# EAGLE library part MCP3428-QUAD-ADC (library jason_eagle6)
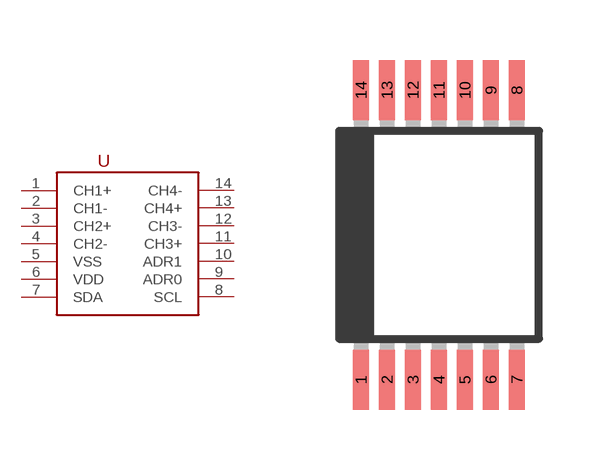
[diagram p65: symbol with the pads of SSOP14; footprint SSOP14]

Designator prefix -

## MCP3428-QUAD-ADC  [SSOP14]
1  CH1+
2  CH1-
3  CH2+
4  CH2-
5  VSS  pwr
6  VDD  pwr
7  SDA
8  SCL
9  ADR0
10  ADR1
11  CH3+
12  CH3-
13  CH4+
14  CH4-

## Footprint SSOP14 (pad centres in mm)
Shrink Small Outline Package package type SS
smd 0.4 x 1.5: 1 -1.95,-3.625; 2 -1.3,-3.625; 3 -0.65,-3.625; 4 0,-3.625; 5 0.65,-3.625; 6 1.3,-3.625; 7 1.95,-3.625; 8 1.95,3.625; 9 1.3,3.625; 10 0.65,3.625; 11 0,3.625; 12 -0.65,3.625; 13 -1.3,3.625; 14 -1.95,3.625